# Altium footprint library PcbLib1.PcbLib: 7 footprints
Each footprint in its own frame and in the unit in brackets; x right, y up, seen from the top. Pads: shape width x height; smd on the part's side, far side on the other; paste and mask are expansions set on the pad; w line width, h text height; cw(c..) or ccw(c..) is an arc to the next point about the centre after c.
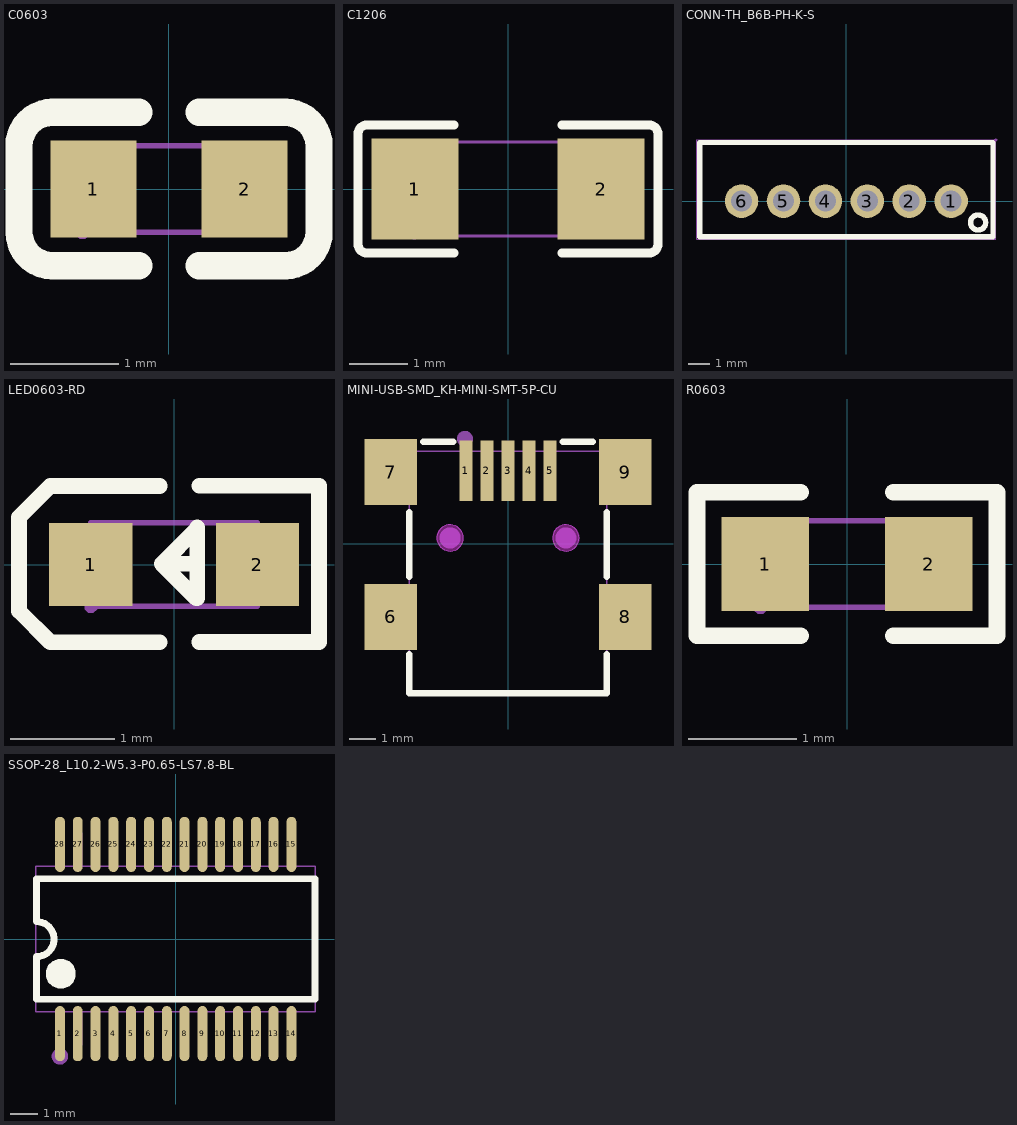
[diagram p0: the footprints below, top view; thin cyan lines are the x and y axes]

## C0603 [mm]
pads (2):
  rect 0.8x0.9 smd: 1(-0.7,0) 2(0.7,0)
Top Overlay:
  lines w0.254: -1.08,-0.71 -0.28,-0.71 ; -1.08,0.71 -0.28,0.71 ; -1.08,-0.71 cw(c-1.08,-0.4) -1.39,-0.4 -1.39,0.4 cw(c-1.08,0.4) -1.08,0.71 ; 0.28,-0.71 1.08,-0.71 ccw(c1.08,-0.4) 1.39,-0.4 1.39,0.4 ccw(c1.08,0.4) 1.08,0.71 0.28,0.71
Mechanical 15:
  region: 0.8,-0.4 0.8,0.4 0.5,0.4 0.5,-0.4
  region: -0.8,-0.4 -0.8,0.4 -0.5,0.4 -0.5,-0.4
  region: -0.74,-0.4 -0.74,-0.425 -0.775,-0.46 -0.825,-0.46 -0.86,-0.425 -0.86,-0.4 -0.86,-0.375 -0.825,-0.34 -0.775,-0.34 -0.74,-0.375
  lines w0.051: -0.8,-0.4 0.8,-0.4 0.8,0.4 -0.8,0.4 -0.8,-0.4
3D body "CC0603KRX7R9BB104.STEP": height 0.78, standoff -0.02, extent -0.825,-0.443 0.775,0.457

## C1206 [mm]
pads (2):
  rect 1.485x1.728 smd paste-100 mask+0.051: 1(-1.593,0) 2(1.593,0)
Top Overlay:
  lines w0.152: -0.926,-1.093 -2.411,-1.093 cw(c-2.411,-0.94) -2.564,-0.94 -2.564,0.94 cw(c-2.411,0.94) -2.411,1.093 -0.926,1.093 ; 0.926,-1.093 2.411,-1.093 ccw(c2.411,-0.94) 2.564,-0.94 2.564,0.94 ccw(c2.411,0.94) 2.411,1.093 0.926,1.093
Top Paste:
  region: 0.85,-0.764 0.85,-0.394 0.95,-0.294 1.255,-0.294 1.355,-0.194 1.355,0.194 1.255,0.294 0.95,0.294 0.85,0.394 0.85,0.764 0.95,0.864 2.235,0.864 2.335,0.764 2.335,-0.764 2.235,-0.864 0.95,-0.864
  region: -0.85,-0.764 -0.85,-0.394 -0.95,-0.294 -1.255,-0.294 -1.355,-0.194 -1.355,0.194 -1.255,0.294 -0.95,0.294 -0.85,0.394 -0.85,0.764 -0.95,0.864 -2.235,0.864 -2.335,0.764 -2.335,-0.764 -2.235,-0.864 -0.95,-0.864
Mechanical 15:
  region: -1.54,-0.8 -1.54,-0.825 -1.575,-0.86 -1.625,-0.86 -1.66,-0.825 -1.66,-0.8 -1.66,-0.775 -1.625,-0.74 -1.575,-0.74 -1.54,-0.775
  region: -1.6,-0.8 -1.6,0.8 -1.1,0.8 -1.1,-0.8
  region: 1.6,-0.8 1.6,0.8 1.1,0.8 1.1,-0.8
  lines w0.051: -1.6,-0.8 -1.6,0.8 1.6,0.8 1.6,-0.8 -1.6,-0.8
3D body "CL31A106KBHNNNE.STEP(c1206).STEP": height 1.64, standoff 0.04, extent -1.6,-0.784 1.6,1.016

## CONN-TH_B6B-PH-K-S [mm]
pads (6):
  round 1.6 hole 1: 1(5,0) 2(3,0) 3(1,0) 4(-1,0) 5(-3,0) 6(-5,0)
Top Overlay:
  circle w0.254: c6.286,-1.016 r0.359
  lines w0.254: -7,-1.7 7,-1.7 7,2.8 -7,2.8 -7,-1.7
Mechanical 15:
  region: 7.187,2.927 7.187,2.902 7.152,2.867 7.102,2.867 7.067,2.902 7.067,2.927 7.067,2.952 7.102,2.987 7.152,2.987 7.187,2.952
  region: 3.4,0 3.4,-0.08 3.339,-0.227 3.227,-0.339 3.08,-0.4 2.92,-0.4 2.773,-0.339 2.661,-0.227 2.6,-0.08 2.6,0 2.6,0.08 2.661,0.227 2.773,0.339 2.92,0.4 3.08,0.4 3.227,0.339 3.339,0.227 3.4,0.08
  region: 5.4,0 5.4,-0.08 5.339,-0.227 5.227,-0.339 5.08,-0.4 4.92,-0.4 4.773,-0.339 4.661,-0.227 4.6,-0.08 4.6,0 4.6,0.08 4.661,0.227 4.773,0.339 4.92,0.4 5.08,0.4 5.227,0.339 5.339,0.227 5.4,0.08
  region: 1.4,0 1.4,-0.08 1.339,-0.227 1.227,-0.339 1.08,-0.4 0.92,-0.4 0.773,-0.339 0.661,-0.227 0.6,-0.08 0.6,0 0.6,0.08 0.661,0.227 0.773,0.339 0.92,0.4 1.08,0.4 1.227,0.339 1.339,0.227 1.4,0.08
  region: -0.6,0 -0.6,-0.08 -0.661,-0.227 -0.773,-0.339 -0.92,-0.4 -1.08,-0.4 -1.227,-0.339 -1.339,-0.227 -1.4,-0.08 -1.4,0 -1.4,0.08 -1.339,0.227 -1.227,0.339 -1.08,0.4 -0.92,0.4 -0.773,0.339 -0.661,0.227 -0.6,0.08
  region: -2.6,0 -2.6,-0.08 -2.661,-0.227 -2.773,-0.339 -2.92,-0.4 -3.08,-0.4 -3.227,-0.339 -3.339,-0.227 -3.4,-0.08 -3.4,0 -3.4,0.08 -3.339,0.227 -3.227,0.339 -3.08,0.4 -2.92,0.4 -2.773,0.339 -2.661,0.227 -2.6,0.08
  region: -4.6,0 -4.6,-0.08 -4.661,-0.227 -4.773,-0.339 -4.92,-0.4 -5.08,-0.4 -5.227,-0.339 -5.339,-0.227 -5.4,-0.08 -5.4,0 -5.4,0.08 -5.339,0.227 -5.227,0.339 -5.08,0.4 -4.92,0.4 -4.773,0.339 -4.661,0.227 -4.6,0.08
  lines w0.051: -7.127,-1.827 7.127,-1.827 7.127,2.927 -7.127,2.927 -7.127,-1.827
3D body "B6B-PH-K-S-LF--SN---3DModel-STEP-56544.STEP(jst).STEP": height 6, standoff -3.4, extent -6.89,-1.706 7.01,2.794

## LED0603-RD [mm]
pads (2):
  rect 0.8x0.8 smd: 1(-0.799,0) 2(0.799,0)
Top Overlay:
  lines w0.15: -0.14,-0.746 -1.19,-0.746 -1.49,-0.446 -1.49,-0.346 -1.49,0.354 -1.49,0.454 -1.19,0.754 -0.14,0.754 ; 0.22,0.007 -0.12,0.007 ; 0.24,-0.744 1.39,-0.744 ; 0.24,0.757 1.39,0.757 1.39,-0.723 ; -0.12,0.007 0.22,0.347 0.22,0.357 0.22,-0.324 0.21,-0.324 -0.12,0.007
Mechanical 6:
  region: 0.529,0.068 1.069,0.068 1.069,-0.062 0.529,-0.062
  region: 0.735,-0.267 0.735,0.273 0.865,0.273 0.865,-0.267
  region: -1.07,0.062 -0.53,0.062 -0.53,-0.068 -1.07,-0.068
Mechanical 15:
  region: 0.5,-0.396 0.5,0.404 0.8,0.404 0.8,-0.396
  region: -0.8,-0.403 -0.8,0.397 -0.5,0.397 -0.5,-0.403
  region: -0.739,-0.403 -0.739,-0.428 -0.775,-0.463 -0.824,-0.463 -0.859,-0.428 -0.859,-0.403 -0.859,-0.379 -0.824,-0.344 -0.775,-0.344 -0.739,-0.379
  lines w0.051: -0.8,-0.4 0.8,-0.4 0.8,0.4 -0.8,0.4 -0.8,-0.4
3D body "19-217_R6C-AL1M2VY_3T.STEP": height 0.5, standoff 0, extent -0.825,-0.425 0.775,0.375

## MINI-USB-SMD_KH-MINI-SMT-5P-CU [mm]
pads (9):
  rect 0.5x2.3 smd paste+0 mask+0.05: 1(-1.6,2.775) 2(-0.8,2.775) 3(0,2.775) 4(0.8,2.775) 5(1.6,2.775)
  rect 2x2.5 smd paste+0 mask+0.05: 6(-4.45,-2.775) 7(-4.45,2.725) 8(4.45,-2.775) 9(4.45,2.725)
Top Overlay:
  lines w0.254: -3.75,-4.206 -3.75,-5.675 3.75,-5.675 3.75,-4.206 ; -3.75,-1.244 -3.75,1.194 ; -3.219,3.885 -2.081,3.885 ; 2.081,3.885 3.219,3.885 ; 3.75,-1.244 3.75,1.194
Keep-Out Layer:
  board cut-out: -1.7,0.225 -1.7,0.125 -1.776,-0.058 -1.917,-0.199 -2.1,-0.275 -2.299,-0.275 -2.483,-0.199 -2.624,-0.058 -2.7,0.125 -2.7,0.225 -2.7,0.324 -2.624,0.508 -2.483,0.649 -2.299,0.725 -2.1,0.725 -1.917,0.649 -1.776,0.508 -1.7,0.324
  board cut-out: 2.7,0.225 2.7,0.125 2.624,-0.058 2.483,-0.199 2.299,-0.275 2.1,-0.275 1.917,-0.199 1.776,-0.058 1.7,0.125 1.7,0.225 1.7,0.324 1.776,0.508 1.917,0.649 2.1,0.725 2.299,0.725 2.483,0.649 2.624,0.508 2.7,0.324
Keep-Out Layer:
  circle w0.025: c-2.2,0.225 r0.5
  circle w0.025: c2.2,0.225 r0.5
  region: -1.7,0.225 -1.7,0.125 -1.776,-0.058 -1.917,-0.199 -2.1,-0.275 -2.299,-0.275 -2.483,-0.199 -2.624,-0.058 -2.7,0.125 -2.7,0.225 -2.7,0.324 -2.624,0.508 -2.483,0.649 -2.299,0.725 -2.1,0.725 -1.917,0.649 -1.776,0.508 -1.7,0.324
  region: 2.7,0.225 2.7,0.125 2.624,-0.058 2.483,-0.199 2.299,-0.275 2.1,-0.275 1.917,-0.199 1.776,-0.058 1.7,0.125 1.7,0.225 1.7,0.324 1.776,0.508 1.917,0.649 2.1,0.725 2.299,0.725 2.483,0.649 2.624,0.508 2.7,0.324
Mechanical 1:
  circle w0.025: c-2.2,0.225 r0.5
  circle w0.025: c2.2,0.225 r0.5
Mechanical 6:
  circle w0.4: c-2.2,0.225 r0.2
  circle w0.4: c2.2,0.225 r0.2
  circle w0.3: c-1.635,3.992 r0.15
Mechanical 15:
  region: -4.64,3.525 -4.64,3.5 -4.675,3.465 -4.725,3.465 -4.76,3.5 -4.76,3.525 -4.76,3.55 -4.725,3.585 -4.675,3.585 -4.64,3.55
  region: -3.749,3.525 -3.749,2.025 -4.699,2.025 -4.699,3.525
  region: -3.749,-1.975 -3.749,-3.475 -4.699,-3.475 -4.699,-1.975
  region: 4.699,3.525 4.699,2.025 3.749,2.025 3.749,3.525
  region: 4.699,-1.975 4.699,-3.475 3.749,-3.475 3.749,-1.975
  region: 1.75,3.525 1.75,2.325 1.45,2.325 1.45,3.525
  region: 0.95,3.525 0.95,2.325 0.65,2.325 0.65,3.525
  region: 0.15,3.525 0.15,2.325 -0.15,2.325 -0.15,3.525
  region: -0.65,3.525 -0.65,2.325 -0.95,2.325 -0.95,3.525
  region: -1.45,3.525 -1.45,2.325 -1.75,2.325 -1.75,3.525
  lines w0.051: -3.75,-5.675 -3.75,3.525 3.75,3.525 3.75,-5.675 -3.75,-5.675
3D body "MUSB-05-F-AB-SM-A-TR.stp": height 3.9, standoff -1.1, extent -4.998,-5.893 4.998,3.607

## R0603 [mm]
pads (2):
  rect 0.806x0.864 smd paste-100 mask+0.051: 1(-0.753,0) 2(0.753,0)
Top Overlay:
  lines w0.152: -0.426,-0.661 -1.385,-0.661 -1.385,0.661 -0.426,0.661 ; 0.426,-0.661 1.385,-0.661 1.385,0.661 0.426,0.661
Top Paste:
  region: -1.195,-0.45 -0.395,-0.45 -0.345,-0.4 -0.345,-0.172 -0.715,-0.172 -0.715,0.158 -0.345,0.158 -0.345,0.4 -0.395,0.45 -1.195,0.45 -1.245,0.4 -1.245,-0.4
  region: 1.195,0.45 0.395,0.45 0.345,0.4 0.345,0.172 0.715,0.172 0.715,-0.158 0.345,-0.158 0.345,-0.4 0.395,-0.45 1.195,-0.45 1.245,-0.4 1.245,0.4
Mechanical 15:
  region: 0.8,-0.4 0.8,0.4 0.5,0.4 0.5,-0.4
  region: -0.8,-0.4 -0.8,0.4 -0.5,0.4 -0.5,-0.4
  region: -0.74,-0.4 -0.74,-0.425 -0.775,-0.46 -0.825,-0.46 -0.86,-0.425 -0.86,-0.4 -0.86,-0.375 -0.825,-0.34 -0.775,-0.34 -0.74,-0.375
  lines w0.051: -0.8,-0.4 0.8,-0.4 0.8,0.4 -0.8,0.4 -0.8,-0.4
3D body "RC0603FR-071KL.STEP(Resistor).STEP": height 0.55, standoff 0, extent -0.8,-0.4 0.8,0.4

## SSOP-28_L10.2-W5.3-P0.65-LS7.8-BL [mm]
pads (28):
  oval 0.364x2.015 smd: 1(-4.225,-3.455) 2(-3.575,-3.455) 3(-2.925,-3.455) 4(-2.275,-3.455) 5(-1.625,-3.455) 6(-0.975,-3.455) 7(-0.325,-3.455) 8(0.325,-3.455) 9(0.975,-3.455) 10(1.625,-3.455) 11(2.275,-3.455) 12(2.925,-3.455) 13(3.575,-3.455) 14(4.225,-3.455) 15(4.225,3.455) 16(3.575,3.455) 17(2.925,3.455) 18(2.275,3.455) 19(1.625,3.455) 20(0.975,3.455) 21(0.325,3.455) 22(-0.325,3.455) 23(-0.975,3.455) 24(-1.625,3.455) 25(-2.275,3.455) 26(-2.925,3.455) 27(-3.575,3.455) 28(-4.225,3.455)
Top Overlay:
  region: -4.722,-1.27 -4.723,-1.164 -4.643,-0.967 -4.493,-0.817 -4.297,-0.735 -4.085,-0.735 -3.889,-0.817 -3.739,-0.967 -3.659,-1.164 -3.66,-1.27 -3.659,-1.376 -3.739,-1.573 -3.889,-1.723 -4.085,-1.805 -4.297,-1.805 -4.493,-1.723 -4.643,-1.573 -4.723,-1.376
  lines w0.254: 5.08,-2.2 -5.08,-2.2 -5.08,-0.644 ccw(c-5.08,-0.004) -5.08,0.635 -5.08,2.2 5.08,2.2 5.08,-2.159
Mechanical 6:
  circle w0.3: c-4.225,-4.285 r0.15
Mechanical 15:
  drawing of 61 lines, arcs and shapes, not listed
3D body "FT232RL-REEL--3DModel-STEP-418109.STEP(FTDI).STEP": height 2, standoff 0, extent -5.075,-4.205 5.125,3.595